# Altium schematic symbol library SCHLIB.SchLib: 15 symbols
Pins are listed as number, name and electrical type; pins without a type are passive.

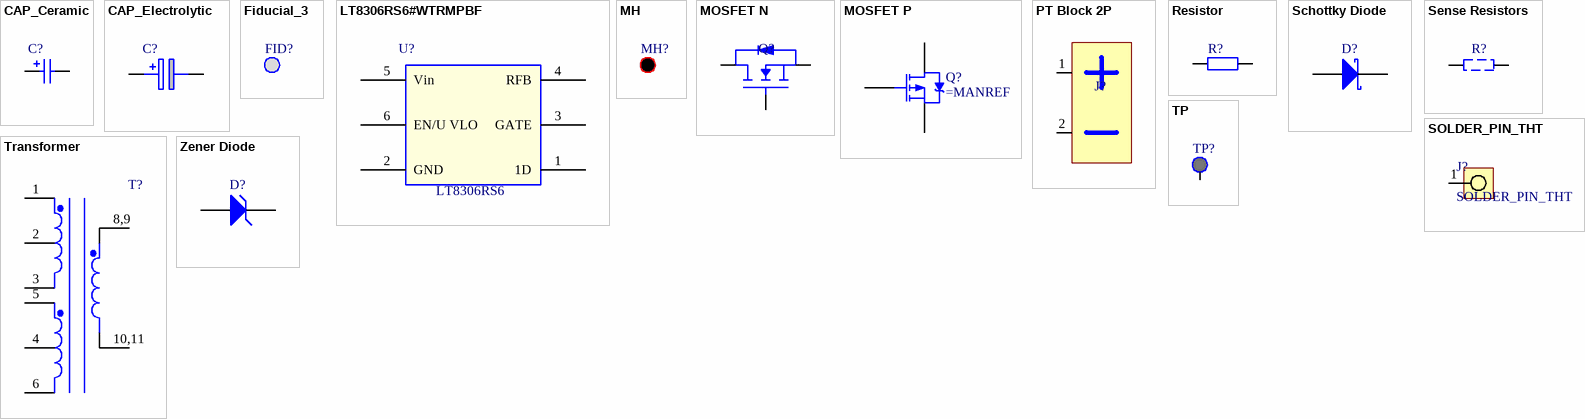
[diagram p0: symbols CAP_Ceramic to Zener Diode]

## CAP_Ceramic
designator C?
Value: *
footprint CAP-0402
footprint CAP-1210
footprint Model Name (Footprint not found)
pins: 1, 2
1 alternate drawing of the same symbol

## CAP_Electrolytic
designator C?
Value: *
footprint ECAP-EEH-ZE1H101P
pins: 1 +, 2 -

## Fiducial_3
designator FID?  (value not drawn)
footprint FIDUCIAL (1MM FIDUCAL MARKER)

## LT8306RS6#WTRMPBF
designator U?
footprint SOT-23-6
pins: 1 1D, 2 GND, 3 GATE, 4 RFB, 5 Vin, 6 EN/U VLO
text: LT8306RS6

## MH
designator MH?  (no BOM)
Mounting Hole
footprint MH
footprint MH-AC
pins: MH

## MOSFET N
designator Q?
footprint TDSON-8
pins: 1,2,3,10 S, 4 G, 5,6,7,8,9 D

## MOSFET P
designator Q?
footprint TO-252-3
pins: 1 G, 2 D, 3 S

## PT Block 2P
designator J?
footprint TBP02R1-381-02BE
pins: 1 V+ (power), 2 V- (power)

## Resistor
designator R?
Value: *
footprint R0603
footprint R1206
pins: 1, 2

## Schottky Diode
designator D?
ComponentLink1Description: Manufacturer Link; ComponentLink1URL: http://www.infineon.com/; ComponentLink2Description: Datasheet; ComponentLink2URL: http://www.infineon.com/upload/Document/cmc_upload/documents/009/382/bas40_bas140series_1.pdf
footprint SOD-128-2
pins: 1 A, 2 K

## Sense Resistors
designator R?
Current Sense Resistors - SMD 0.006 ohm 1% 1.5W2; Value: *
footprint R1206
pins: 1, 2

## SOLDER_PIN_THT
designator J?
Solder Pin 1.5mm Through-Hole
footprint PIN1 (Connector; Plug)
pins: 1

## TP
designator TP?  (no BOM)
Test Point
footprint TP
pins: 1

## Transformer
designator T?
footprint 11328-T078
pins: 1, 2, 3, 4, 5, 6, 8,9, 10,11

## Zener Diode
designator D?
footprint DIOM5226X220N
footprint SOD-123-2
pins: 1 A, 2 K